# Altium schematic symbol library IS66WVS4M8BLL-104NLI.SchLib: 1 symbol
Pins are listed as number, name and electrical type; pins without a type are passive.

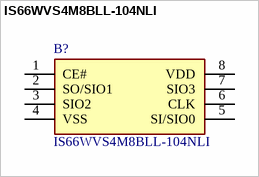
[diagram p0: symbol IS66WVS4M8BLL-104NLI]

## IS66WVS4M8BLL-104NLI
designator B?
PSRAM (Pseudo SRAM) Memory IC 32Mbit SPI, QPI 104 MHz 7 ns 8-SOIC; Manufacturer_Name: Integrated Silicon Solution Inc.; Geometry.Height: 1.75mm; Mouser Part Number: 870-ISS4M8BLL-104NLI; Mouser Price/Stock: https://www.mouser.co.uk/ProductDetail/ISSI/IS66WVS4M8BLL-104NLI?qs=doiCPypUmgHfByEUFkOsAw%3D%3D; Manufacturer_Part_Number: IS66WVS4M8BLL-104NLI; Datasheet Link: https://www.issi.com/WW/pdf/66-67WVS4M8ALL-BLL.pdf
footprint SOIC127P600X175-8N
pins: 1 CE#, 2 SO/SIO1, 3 SIO2, 4 VSS, 5 SI/SIO0, 6 CLK, 7 SIO3, 8 VDD